# Altium footprint library CVC_power.PcbLib: 7 footprints
Each footprint in its own frame and in the unit in brackets; x right, y up, seen from the top. Pads: shape width x height; smd on the part's side, far side on the other; paste and mask are expansions set on the pad; w line width, h text height; cw(c..) or ccw(c..) is an arc to the next point about the centre after c.
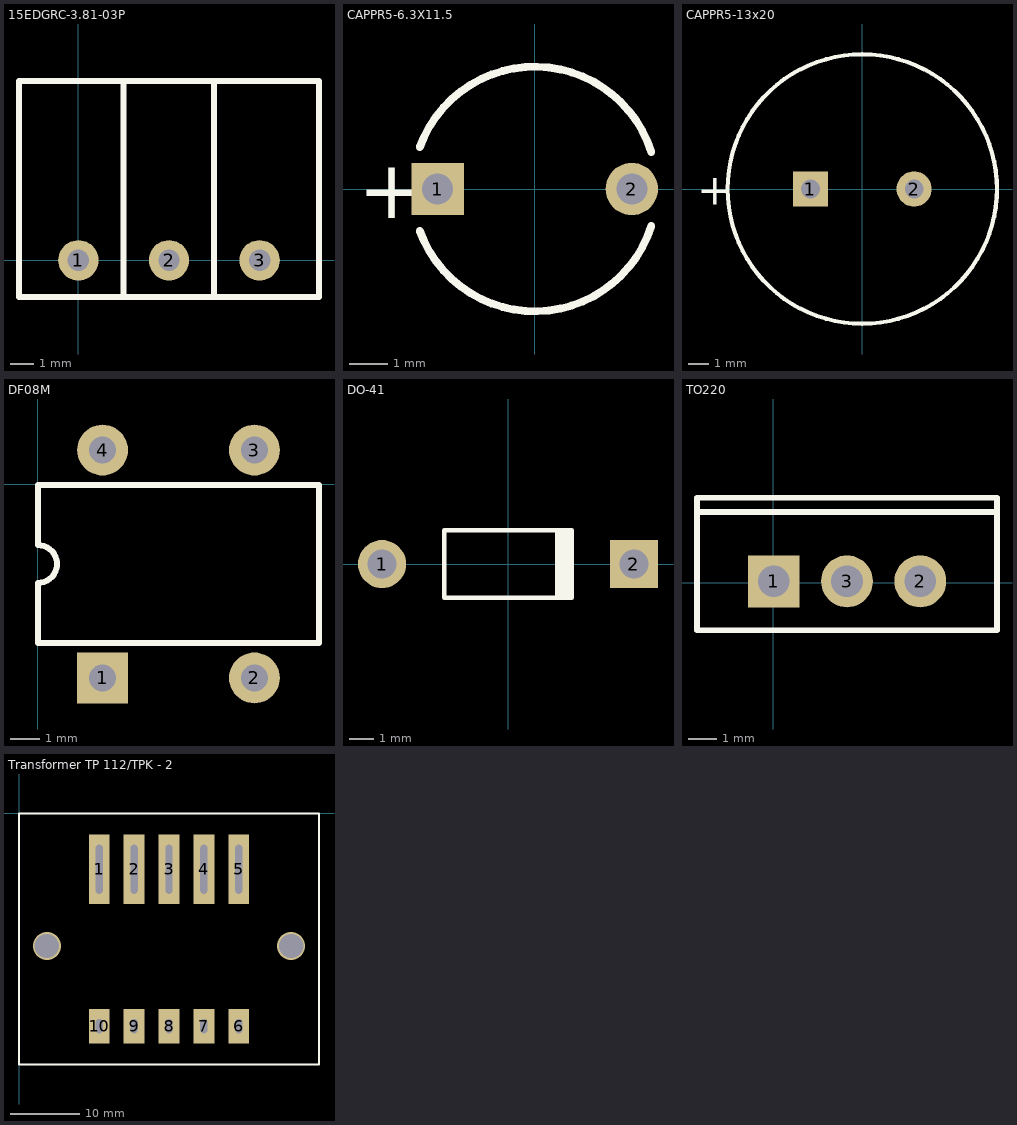
[diagram p0: the footprints below, top view; thin cyan lines are the x and y axes]

## 15EDGRC-3.81-03P [mm]
pads (3):
  round 1.7 hole 0.9: 1(0,0) 2(3.81,0) 3(7.62,0)
Top Overlay:
  lines w0.254: 1.9,-1.55 1.9,7.5 ; 5.7,-1.55 5.7,7.5 ; -2.5,-1.55 -2.5,7.55 10.12,7.55 10.12,-1.55 -2.5,-1.55

## CAPPR5-6.3X11.5 [mm]
pads (2):
  rect 1.35x1.35 hole 0.8: 1(-2.5,0)
  round 1.35 hole 0.8: 2(2.5,0)
Top Overlay:
  lines w0.2: -2.961,-1.075 ccw(c0,0) 3.003,-0.95 ; -2.961,1.075 cw(c0,0) 3.003,0.95
  text "+" at -4.55,-0.75 h1.5

## CAPPR5-13x20 [mm]
pads (2):
  rect 1.7x1.7 hole 0.9: 1(-2.5,0)
  round 1.7 hole 0.9: 2(2.5,0)
Top Overlay:
  circle w0.2: c0,0 r6.5
  text "+" at -7.975,-0.75 h1.5

## DF08M [mm]
pads (4):
  rect 1.7x1.7 hole 0.9: 1(2.17,-6.47)
  round 1.7 hole 0.9: 2(7.25,-6.47) 3(7.25,1.15) 4(2.17,1.15)
Top Overlay:
  lines w0.2: 0.01,-5.31 9.41,-5.31 9.41,-0.01 0.01,-0.01 0.01,-2.025 cw(c0.01,-2.66) 0.01,-3.295 0.01,-5.31

## DO-41 [mm]
pads (2):
  round 2 hole 1.2: 1(-5.23,0)
  rect 2x2 hole 1.2: 2(5.23,0)
Top Overlay:
  rectangle: 1.951,-1.398 2.751,1.402
  lines w0.2: 2.65,-1.4 -2.65,-1.4 -2.65,1.4 2.65,1.4

## TO220 [mm]
pads (3):
  rect 1.8x1.8 hole 1.1: 1(0.017,0.047)
  round 1.8 hole 1.1: 2(5.097,0.047) 3(2.557,0.047)
Top Overlay:
  lines w0.2: -2.643,2.447 7.757,2.447 ; -2.643,-1.653 -2.643,2.947 7.757,2.947 7.757,-1.653 -2.643,-1.653

## Transformer TP 112/TPK - 2 [mm]
pads (10):
  rect 3x10 hole 1 slot 7 at 90 deg: 1(11.5,-8) 2(16.5,-8) 3(21.5,-8) 4(26.5,-8) 5(31.5,-8)
  rect 3x5 hole 1 slot 2 at 90 deg: 6(31.5,-30.5) 7(26.5,-30.5) 8(21.5,-30.5) 9(16.5,-30.5) 10(11.5,-30.5)
via 39,-19 diameter 4 hole 3.5
via 4,-19 diameter 4 hole 3.5
Top Overlay:
  lines w0.3: 0,-36 43,-36 43,0 0,0 0,-36